# EAGLE library part 679307124022 (library Wurth_Elektronik_Electromechanic_Wire_to_Board_Connectors_rev16a)
WR-WTB 1.50mm SMT Male Vertical Shrouded Header, 7 Pins=>Code : Con_WTB_1.50_PCB_SMT_679307124022 <http://katalog.we-online.de/media/thumbs2/eican/thb_Con_WTB_1.50_PCB_SMT_6793xx124022_pf2.jpg> Details see: http://katalog.we-online.de/en/em/679_3xx_124_022 Created 2014-06-06, Karrer Zheng 2014 (C) Würth Elektronik
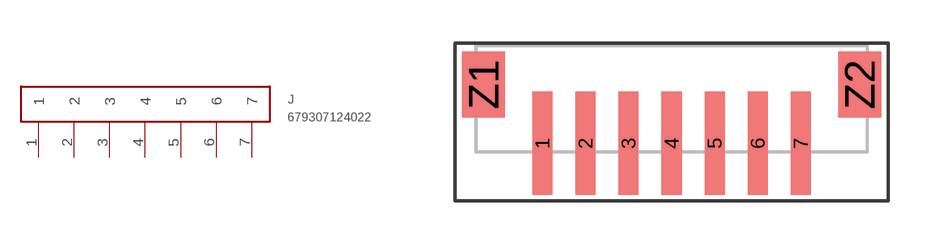
[diagram p45: symbol with the pads of 679307124022; footprint 679307124022]

Designator prefix J

## 679307124022  [679307124022]
1  1  pas
2  2  pas
3  3  pas
4  4  pas
5  5  pas
6  6  pas
7  7  pas

## Footprint 679307124022 (pad centres in mm)
WR-WTB 1.50mm SMT Male Vertical Shrouded Header, 7 Pins
smd 0.7 x 3.6: 1 -4.5,0; 2 -3,0; 3 -1.5,0; 4 0,0; 5 1.5,0; 6 3,0; 7 4.5,0
smd 1.5 x 2.3: Z1 -6.55,2.05; Z2 6.55,2.05